# EAGLE library part HEADER-6WAY (library con-te-ep2.5)
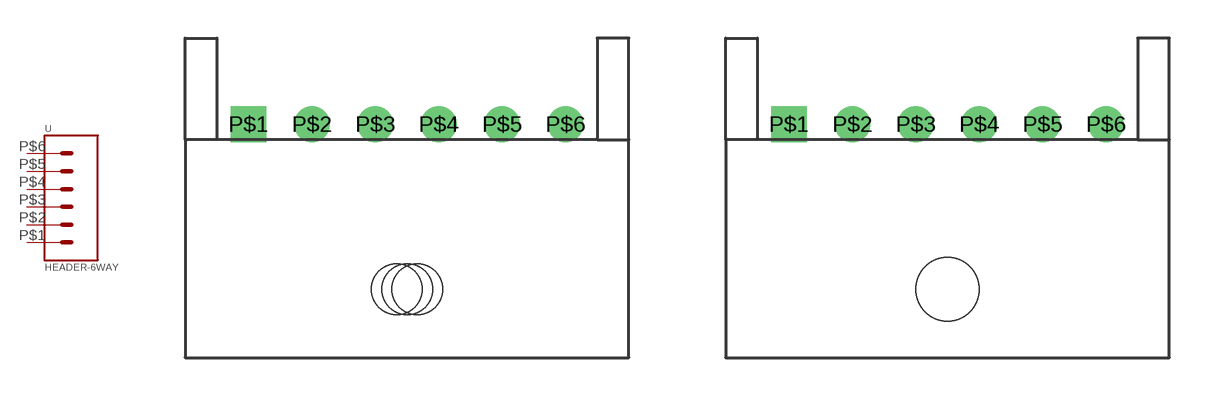
[diagram p0: symbol with the pads of 1744426-6; footprints 1744426-6, 1744426-6-NOSLOT]

Designator prefix -

## HEADER-6WAY  [1744426-6]
P$1  P$1  pas
P$2  P$2  pas
P$3  P$3  pas
P$4  P$4  pas
P$5  P$5  pas
P$6  P$6  pas

## HEADER-6WAYNOSLOT  [1744426-6-NOSLOT]
Pads as for 1744426-6

## HEADER-6WAYVERTICLE  [2132230-6]
Pads as for 1744426-6

## Footprint 1744426-6 (pad centres in mm)
drill 0.9 square: P$1 -6.25,6.5
drill 0.9: P$2 -3.75,6.5; P$3 -1.25,6.5; P$4 1.25,6.5; P$5 3.75,6.5; P$6 6.25,6.5
hole 2 at 0,0
hole 2 at -0.4,0
hole 2 at 0.4,0

## Footprint 1744426-6-NOSLOT (pad centres in mm)
drill 0.9 square: P$1 -6.25,6.5
drill 0.9: P$2 -3.75,6.5; P$3 -1.25,6.5; P$4 1.25,6.5; P$5 3.75,6.5; P$6 6.25,6.5
hole 2.5 at 0,0

## Footprint 2132230-6 (pad centres in mm)
TE Connectivity (TE) Economy Power 2.5 Connector Economy Power 2.5, PCB Mount Header, Vertical, Wire-to-Board, 6 Position, 2.5mm [.098in] Centerline, 1 Row, Tin, Natural, Shrouded, Power & Signal TE Internal #: 2132230-6 TE Internal Description: EP2.5 Shrouded HDR ASSY 6P VER
drill 0.9 square: P$1 2.5,3.5
drill 0.9: P$2 5,3.5; P$3 7.5,3.5; P$4 10,3.5; P$5 12.5,3.5; P$6 15,3.5
hole 1.2 at 0.9,1.9